# Altium footprint library F_1206_3216.PcbLib: 1 footprints
Each footprint in its own frame and in the unit in brackets; x right, y up, seen from the top. Pads: shape width x height; smd on the part's side, far side on the other; paste and mask are expansions set on the pad; w line width, h text height; cw(c..) or ccw(c..) is an arc to the next point about the centre after c.
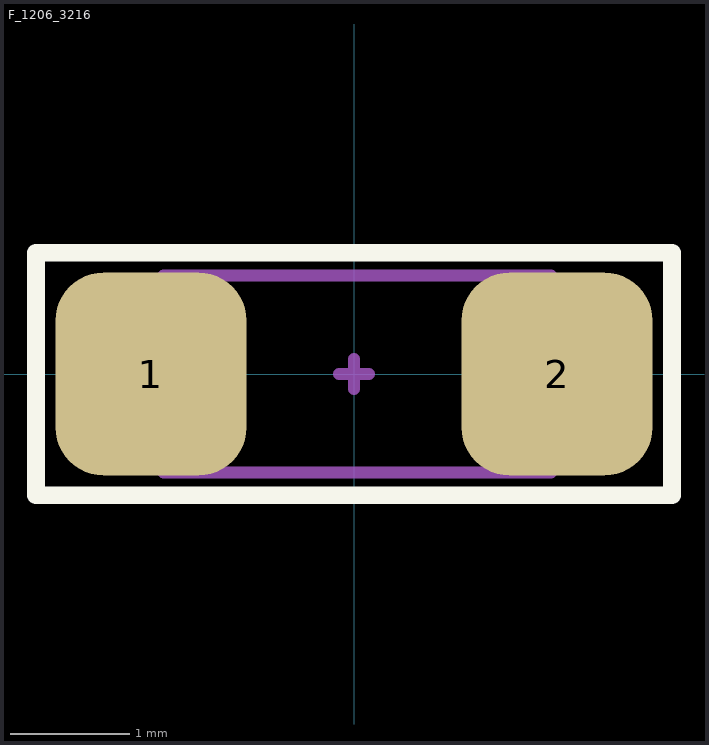
[diagram p0: the footprint, top view; thin cyan lines are the x and y axes]

## F_1206_3216 [mm]
pads (2):
  rrect50% 1.6x1.7 smd mask+0.05: 1(-1.702,0) 2(1.702,0)
Top Overlay:
  lines w0.15: -2.667,-1.016 -2.667,1.016 -0.889,1.016 2.667,1.016 2.667,-1.016 -2.667,-1.016
Top Assembly:
  lines w0.1: -1.597,-0.825 1.653,-0.825 1.653,0.825 -1.597,0.825 -1.597,-0.825
Top Courtyard:
  lines w0.1: -0.127,0 0.127,0 ; 0,-0.127 0,0.127 ; -2.667,-1.016 2.667,-1.016 2.667,1.016 -2.667,1.016 -2.667,-1.016
3D body "User Library-nona SMD075F.step": height 0.55, standoff -0.01, extent -1.573,-0.826 1.629,0.826